# EAGLE library part CONN_TWINAX_CJT (library balanced_detector_pcb)
Circular RF Twinax Jack, Bulkhead Through-hole
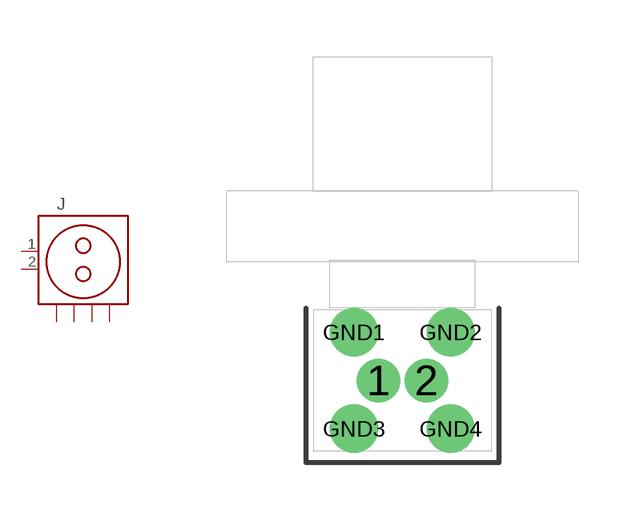
[diagram p0: symbol with the pads of CJT-T-P-HH-RA-BH1; footprint CJT-T-P-HH-RA-BH1]

Designator prefix J

## CONN_TWINAX_CJT (MFG: SAMTEC; MPN: CJT-T-P-HH-RA-BH1; PRICE: 169.01; VENDOR: DIGIKEY; VPN: SAM9214-ND)  [CJT-T-P-HH-RA-BH1]
1  1  pas
2  2  pas
GND1  GND  pas
GND2  GND  pas
GND3  GND  pas
GND4  GND  pas

## Footprint CJT-T-P-HH-RA-BH1 (pad centres in mm)
drill 0.635 round: 1 -0.635,0; 2 0.635,0
drill 0.762 round: GND1 -1.27,1.27; GND2 1.27,1.27; GND3 -1.27,-1.27; GND4 1.27,-1.27